# Altium schematic symbol library DTS-62R-V.SchLib: 1 symbol
Pins are listed as number, name and electrical type; pins without a type are passive.

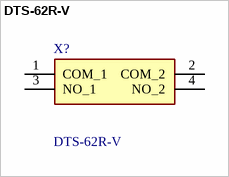
[diagram p0: symbol DTS-62R-V]

## DTS-62R-V
designator X?
Switch Tactile N.O. SPST Round Button PC Pins 0.05A 12VDC 2.55N Thru-Hole; Manufacturer_Name: Diptronics; Geometry.Height: 5mm; Manufacturer_Part_Number: DTS-62R-V; Mouser Part Number: 113-DTS62RV; Mouser Price/Stock: https://www.mouser.co.uk/ProductDetail/Diptronics/DTS-62R-V?qs=MLItCLRbWswrP5XEDr4Cgg%3D%3D; Arrow Part Number: *; Arrow Price/Stock: *; Datasheet Link: http://www.dip.com.tw/en/en-product-information/en-switch004/item/download/2504_1f511f4f5b826e90b17b1a41bfb6a3ce
footprint DTS62RV
pins: 1 COM_1, 2 COM_2, 3 NO_1, 4 NO_2